# Altium schematic symbol library OpenChill_Components_Library.SchLib: 8 symbols
Pins are listed as number, name and electrical type; pins without a type are passive.

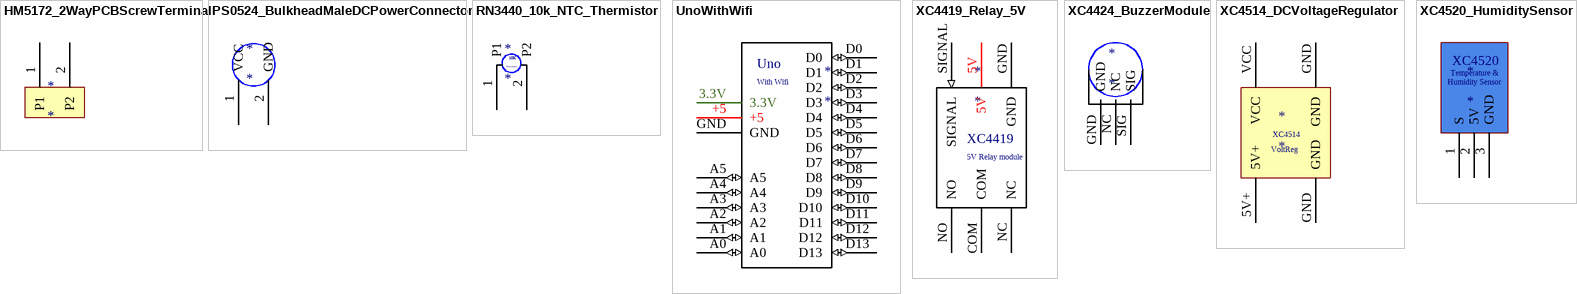
[diagram p0: symbols HM5172_2WayPCBScrewTerminal to XC4520_HumiditySensor]

## HM5172_2WayPCBScrewTerminal
designator *
footprint OpenChill_2xThruHole
pins: 1 P1, 2 P2

## PS0524_BulkheadMaleDCPowerConnector
designator *
footprint OpenChill_2xThruHole
pins: 1 VCC (power), 2 GND (power)

## RN3440_10k_NTC_Thermistor
designator *
footprint OpenChill_2xThruHole
pins: 1 P1, 2 P2
text: 10K; Thermistor

## UnoWithWifi
designator *
footprint ARDUINO_INTERFACE_FOOTPRINT
pins: 3.3V (power), +5 (power), A0 (io), A1 (io), A2 (io), A3 (io), A4 (io), A5 (io), D0 (io), D1 (io), D2 (io), D3 (io), D4 (io), D5 (io), D6 (io), D7 (io), D8 (io), D9 (io), D10 (io), D11 (io), D12 (io), D13 (io), GND (power)
text: Uno; With Wifi

## XC4419_Relay_5V
designator *
footprint XC4419_5VRelay_Footprint
pins: 5V (power), COM, GND (power), NC, NO, SIGNAL (in)
text: XC4419; 5V Relay module

## XC4424_BuzzerModule
designator *
footprint XC4424_BuzzerModule_Footprint
pins: GND, NC, SIG

## XC4514_DCVoltageRegulator
designator *
footprint XC4514_VoltReg_Footprint
pins: 5V+ (power), GND (power), GND (power), VCC (power)
text: XC4514; VoltReg

## XC4520_HumiditySensor
designator *
footprint OpenChill_3xThruHole
pins: 1 S, 2 5V, 3 GND
text: XC4520; Temperature &; Humidity Sensor